# EAGLE library part MIC23050 (library power)
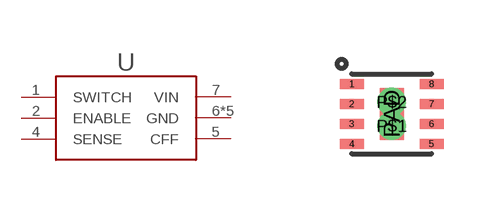
[diagram p4: symbol with the pads of MLF8; footprint MLF8]

Designator prefix U

## MIC23050  [MLF8]
1  SWITCH
2  ENABLE
4  SENSE
5  CFF
6  GND
7  VIN
8  GND
P$1  GND
P$2  GND
PAD  GND

## Footprint MLF8 (pad centres in mm)
smd 0.6 x 0.25: 1 -1,0.75; 2 -1,0.25; 3 -1,-0.25; 4 -1,-0.75; 5 1,-0.75; 6 1,-0.25; 7 1,0.25; 8 1,0.75
drill 0.2 pad 0.4: P$1 0,-0.3; P$2 0,0.3
smd 0.6 x 1.3: PAD 0,0